# EAGLE library part TINY841 (library attiny841)
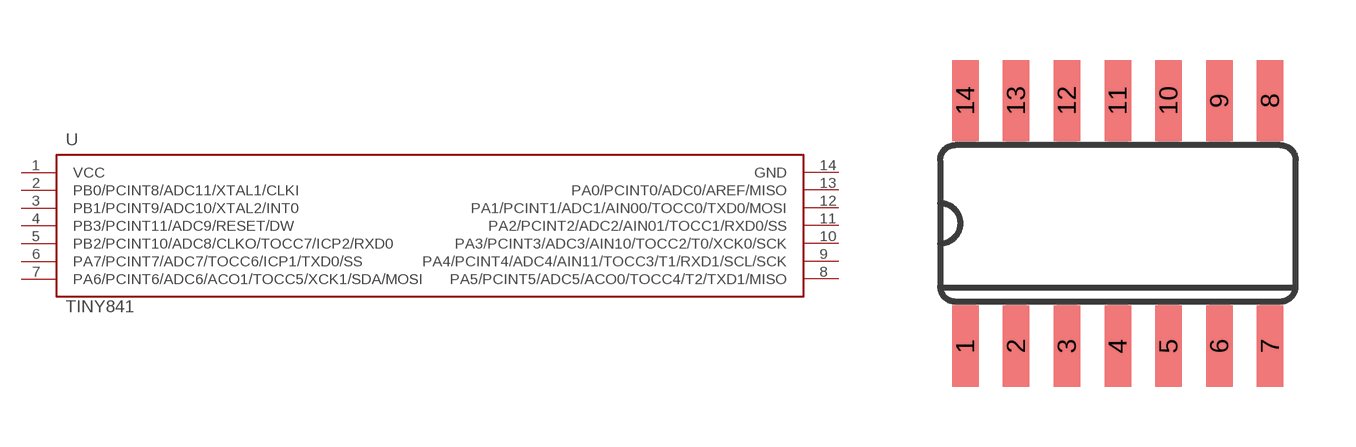
[diagram p0: symbol with the pads of SO14; footprint SO14]

Designator prefix -

## TINY841  [SO14]
1  VCC  pwr
2  PB0/PCINT8/ADC11/XTAL1/CLKI
3  PB1/PCINT9/ADC10/XTAL2/INT0
4  PB3/PCINT11/ADC9/RESET/DW
5  PB2/PCINT10/ADC8/CLKO/TOCC7/ICP2/RXD0
6  PA7/PCINT7/ADC7/TOCC6/ICP1/TXD0/SS
7  PA6/PCINT6/ADC6/ACO1/TOCC5/XCK1/SDA/MOSI
8  PA5/PCINT5/ADC5/ACO0/TOCC4/T2/TXD1/MISO
9  PA4/PCINT4/ADC4/AIN11/TOCC3/T1/RXD1/SCL/SCK
10  PA3/PCINT3/ADC3/AIN10/TOCC2/T0/XCK0/SCK
11  PA2/PCINT2/ADC2/AIN01/TOCC1/RXD0/SS
12  PA1/PCINT1/ADC1/AIN00/TOCC0/TXD0/MOSI
13  PA0/PCINT0/ADC0/AREF/MISO
14  GND  pwr

## Footprint SO14 (pad centres in mm)
Small Outline package 150 mil
smd 0.66 x 2.032: 1 -3.81,-3.073; 2 -2.54,-3.073; 3 -1.27,-3.073; 4 0,-3.073; 5 1.27,-3.073; 6 2.54,-3.073; 7 3.81,-3.073; 8 3.81,3.073; 9 2.54,3.073; 10 1.27,3.073; 11 0,3.073; 12 -1.27,3.073; 13 -2.54,3.073; 14 -3.81,3.073